# Altium integrated library Capacitor - Aluminium TH.IntLib: 4591 symbols (part 65 of 68)
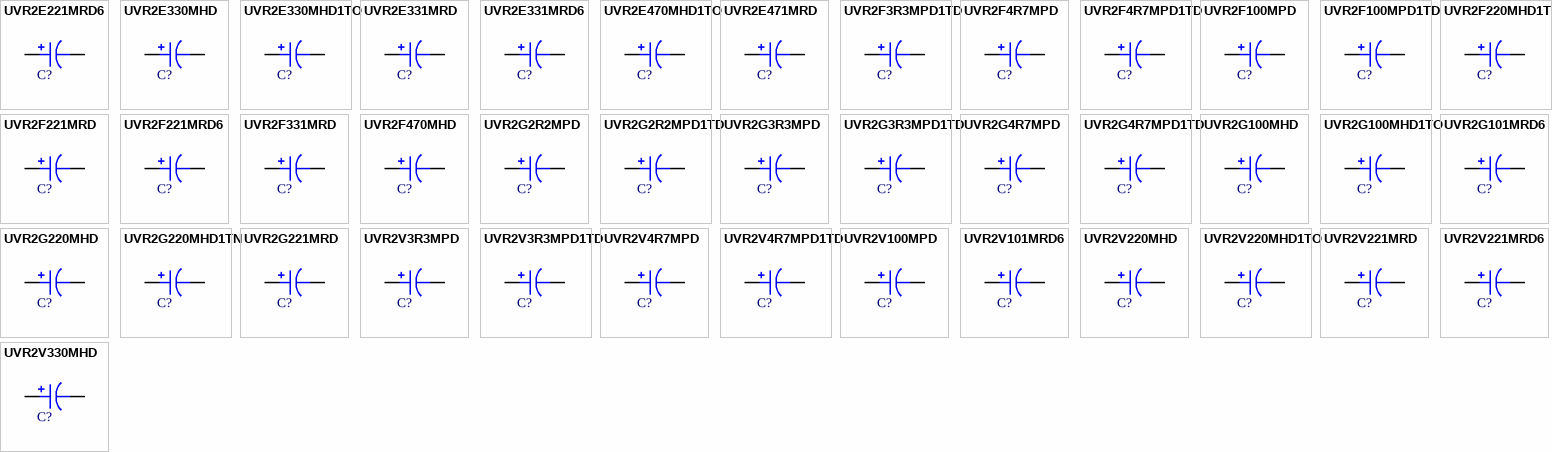
[diagram p178: symbols UVR2E221MRD6 to UVR2V330MHD]

## UVR2G101MRD6
designator C?, comment 100uF  (value not drawn)
CAP ALUM 100UF 20% 400V RADIAL; Part Number: UVR2G101MRD6; Manufacturer: Nichicon; TemperatureRange: -40C ~ 85C; Type: Polar; Ripple Current: 530mA; Value: 100uF; PartId: 27473; Supplier 1: Digi-Key; Supplier Part Number 1: 493-1235-ND; ComponentLink1Description: Datasheet; ComponentLink1URL: http://nichicon-us.com/english/products/pdfs/e-uvr.pdf; ComponentLink2Description: Digi-Key Listing; ComponentLink2URL: https://www.digikey.com/product-detail/en/nichicon/UVR2G101MRD6/493-1235-ND/588976; Tolerance: 20%; Voltage: 400V; Price: 3.13; Device Package: Radial, Can, 25mm
footprint CAP AL TH D25 L12.5 H32
pins: 1, 2

## UVR2G220MHD
designator C?, comment 22uF  (value not drawn)
CAP ALUM 22UF 20% 400V RADIAL; Part Number: UVR2G220MHD; Manufacturer: Nichicon; TemperatureRange: -40C ~ 85C; Type: Polar; Ripple Current: 240mA; Value: 22uF; PartId: 26847; Supplier 1: Digi-Key; Supplier Part Number 1: 493-1231-ND; ComponentLink1Description: Datasheet; ComponentLink1URL: http://nichicon-us.com/english/products/pdfs/e-uvr.pdf; ComponentLink2Description: Digi-Key Listing; ComponentLink2URL: https://www.digikey.com/product-detail/en/nichicon/UVR2G220MHD/493-1231-ND/588972; Tolerance: 20%; Voltage: 400V; Price: 1.04; Device Package: Radial, Can, 16mm
footprint CAP AL TH D16 L7.5 H27
pins: 1, 2

## UVR2G220MHD1TN
designator C?, comment 22uF  (value not drawn)
CAP ALUM 22UF 20% 400V RADIAL; Part Number: UVR2G220MHD1TN; Manufacturer: Nichicon; TemperatureRange: -40C ~ 85C; Type: Polar; Ripple Current: 240mA; Value: 22uF; PartId: 26747; Supplier 1: Digi-Key; Supplier Part Number 1: 493-12864-3-ND; ComponentLink1Description: Datasheet; ComponentLink1URL: http://nichicon-us.com/english/products/pdfs/e-uvr.pdf; ComponentLink2Description: Digi-Key Listing; ComponentLink2URL: https://www.digikey.com/product-detail/en/nichicon/UVR2G220MHD1TN/493-12864-3-ND/4329063; Tolerance: 20%; Voltage: 400V; Price: 0.5113; Device Package: Radial, Can, 16mm
footprint CAP AL TH D16 L7.5 H27
pins: 1, 2

## UVR2G221MRD
designator C?, comment 220uF  (value not drawn)
CAP ALUM 220UF 20% 400V RADIAL; Part Number: UVR2G221MRD; Manufacturer: Nichicon; TemperatureRange: -40C ~ 85C; Type: Polar; Ripple Current: 750mA; Value: 220uF; PartId: 27518; Supplier 1: Digi-Key; Supplier Part Number 1: 493-1236-ND; ComponentLink1Description: Datasheet; ComponentLink1URL: http://nichicon-us.com/english/products/pdfs/e-uvr.pdf; ComponentLink2Description: Digi-Key Listing; ComponentLink2URL: https://www.digikey.com/product-detail/en/nichicon/UVR2G221MRD/493-1236-ND/588977; Tolerance: 20%; Voltage: 400V; Price: 4.62; Device Package: Radial, Can, 25mm
footprint CAP AL TH D25 L12.5 H52
pins: 1, 2

## UVR2V3R3MPD
designator C?, comment 3.3uF  (value not drawn)
CAP ALUM 3.3UF 20% 350V RADIAL; Part Number: UVR2V3R3MPD; Manufacturer: Nichicon; TemperatureRange: -40C ~ 85C; Type: Polar; Ripple Current: 55mA; Value: 3.3uF; PartId: 24815; Supplier 1: Digi-Key; Supplier Part Number 1: 493-1216-ND; ComponentLink1Description: Datasheet; ComponentLink1URL: http://nichicon-us.com/english/products/pdfs/e-uvr.pdf; ComponentLink2Description: Digi-Key Listing; ComponentLink2URL: https://www.digikey.com/product-detail/en/nichicon/UVR2V3R3MPD/493-1216-ND/588957; Tolerance: 20%; Voltage: 350V; Price: 0.45; Device Package: Radial, Can, 10mm
footprint CAP AL TH D10 L5 H14.5
pins: 1, 2

## UVR2V3R3MPD1TD
designator C?, comment 3.3uF  (value not drawn)
CAP ALUM 3.3UF 20% 350V RADIAL; Part Number: UVR2V3R3MPD1TD; Manufacturer: Nichicon; TemperatureRange: -40C ~ 85C; Type: Polar; Ripple Current: 55mA; Value: 3.3uF; PartId: 24736; Supplier 1: Digi-Key; Supplier Part Number 1: 493-12873-1-ND; ComponentLink1Description: Datasheet; ComponentLink1URL: http://nichicon-us.com/english/products/pdfs/e-uvr.pdf; ComponentLink2Description: Digi-Key Listing; ComponentLink2URL: https://www.digikey.com/product-detail/en/nichicon/UVR2V3R3MPD1TD/493-12873-1-ND/4328433; Tolerance: 20%; Voltage: 350V; Price: 0.41; Device Package: Radial, Can, 10mm
footprint CAP AL TH D10 L5 H14.5
pins: 1, 2

## UVR2V4R7MPD
designator C?, comment 4.7uF  (value not drawn)
CAP ALUM 4.7UF 20% 350V RADIAL; Part Number: UVR2V4R7MPD; Manufacturer: Nichicon; TemperatureRange: -40C ~ 85C; Type: Polar; Ripple Current: 65mA; Value: 4.7uF; PartId: 24912; Supplier 1: Digi-Key; Supplier Part Number 1: 493-1217-ND; ComponentLink1Description: Datasheet; ComponentLink1URL: http://nichicon-us.com/english/products/pdfs/e-uvr.pdf; ComponentLink2Description: Digi-Key Listing; ComponentLink2URL: https://www.digikey.com/product-detail/en/nichicon/UVR2V4R7MPD/493-1217-ND/588958; Tolerance: 20%; Voltage: 350V; Price: 0.49; Device Package: Radial, Can, 10mm
footprint CAP AL TH D10 L5 H14.5
pins: 1, 2

## UVR2V4R7MPD1TD
designator C?, comment 4.7uF  (value not drawn)
CAP ALUM 4.7UF 20% 350V RADIAL; Part Number: UVR2V4R7MPD1TD; Manufacturer: Nichicon; TemperatureRange: -40C ~ 85C; Type: Polar; Ripple Current: 65mA; Value: 4.7uF; PartId: 24561; Supplier 1: Digi-Key; Supplier Part Number 1: 493-12874-3-ND; ComponentLink1Description: Datasheet; ComponentLink1URL: http://nichicon-us.com/english/products/pdfs/e-uvr.pdf; ComponentLink2Description: Digi-Key Listing; ComponentLink2URL: https://www.digikey.com/product-detail/en/nichicon/UVR2V4R7MPD1TD/493-12874-3-ND/4329073; Tolerance: 20%; Voltage: 350V; Price: 0.1534; Device Package: Radial, Can, 10mm
footprint CAP AL TH D10 L5 H14.5
pins: 1, 2

## UVR2V100MPD
designator C?, comment 10uF  (value not drawn)
CAP ALUM 10UF 20% 350V RADIAL; Part Number: UVR2V100MPD; Manufacturer: Nichicon; TemperatureRange: -40C ~ 85C; Type: Polar; Ripple Current: 115mA; Value: 10uF; PartId: 25855; Supplier 1: Digi-Key; Supplier Part Number 1: 493-1218-ND; ComponentLink1Description: Datasheet; ComponentLink1URL: http://nichicon-us.com/english/products/pdfs/e-uvr.pdf; ComponentLink2Description: Digi-Key Listing; ComponentLink2URL: https://www.digikey.com/product-detail/en/nichicon/UVR2V100MPD/493-1218-ND/588959; Tolerance: 20%; Voltage: 350V; Price: 0.57; Device Package: Radial, Can, 10mm
footprint CAP AL TH D10 L5 H22
pins: 1, 2

## UVR2V101MRD6
designator C?, comment 100uF  (value not drawn)
CAP ALUM 100UF 20% 350V RADIAL; Part Number: UVR2V101MRD6; Manufacturer: Nichicon; TemperatureRange: -40C ~ 85C; Type: Polar; Ripple Current: 570mA; Value: 100uF; PartId: 27570; Supplier 1: Digi-Key; Supplier Part Number 1: 493-1223-ND; ComponentLink1Description: Datasheet; ComponentLink1URL: http://nichicon-us.com/english/products/pdfs/e-uvr.pdf; ComponentLink2Description: Digi-Key Listing; ComponentLink2URL: https://www.digikey.com/product-detail/en/nichicon/UVR2V101MRD6/493-1223-ND/588964; Tolerance: 20%; Voltage: 350V; Price: 2.77; Device Package: Radial, Can, 22mm
footprint CAP AL TH D22 L10 H33
pins: 1, 2

## UVR2V220MHD
designator C?, comment 22uF  (value not drawn)
CAP ALUM 22UF 20% 350V RADIAL; Part Number: UVR2V220MHD; Manufacturer: Nichicon; TemperatureRange: -40C ~ 85C; Type: Polar; Ripple Current: 200mA; Value: 22uF; PartId: 23895; Supplier 1: Digi-Key; Supplier Part Number 1: 493-1219-ND; ComponentLink1Description: Datasheet; ComponentLink1URL: http://nichicon-us.com/english/products/pdfs/e-uvr.pdf; ComponentLink2Description: Digi-Key Listing; ComponentLink2URL: https://www.digikey.com/product-detail/en/nichicon/UVR2V220MHD/493-1219-ND/588960; Tolerance: 20%; Voltage: 350V; Price: 0.87; Device Package: Radial, Can, 12.5mm
footprint CAP AL TH D12.5 L5 H27
pins: 1, 2

## UVR2V220MHD1TO
designator C?, comment 22uF  (value not drawn)
CAP ALUM 22UF 20% 350V RADIAL; Part Number: UVR2V220MHD1TO; Manufacturer: Nichicon; TemperatureRange: -40C ~ 85C; Type: Polar; Ripple Current: 200mA; Value: 22uF; PartId: 23950; Supplier 1: Digi-Key; Supplier Part Number 1: 493-12870-1-ND; ComponentLink1Description: Datasheet; ComponentLink1URL: http://nichicon-us.com/english/products/pdfs/e-uvr.pdf; ComponentLink2Description: Digi-Key Listing; ComponentLink2URL: https://www.digikey.com/product-detail/en/nichicon/UVR2V220MHD1TO/493-12870-1-ND/4328399; Tolerance: 20%; Voltage: 350V; Price: 0.97; Device Package: Radial, Can, 12.5mm
footprint CAP AL TH D12.5 L5 H27
pins: 1, 2

## UVR2V221MRD
designator C?, comment 220uF  (value not drawn)
CAP ALUM 220UF 20% 350V RADIAL; Part Number: UVR2V221MRD; Manufacturer: Nichicon; TemperatureRange: -40C ~ 85C; Type: Polar; Ripple Current: 850mA; Value: 220uF; PartId: 27655; Supplier 1: Digi-Key; Supplier Part Number 1: 493-1224-ND; ComponentLink1Description: Datasheet; ComponentLink1URL: http://nichicon-us.com/english/products/pdfs/e-uvr.pdf; ComponentLink2Description: Digi-Key Listing; ComponentLink2URL: https://www.digikey.com/product-detail/en/nichicon/UVR2V221MRD/493-1224-ND/588965; Tolerance: 20%; Voltage: 350V; Price: 4.42; Device Package: Radial, Can, 22mm
footprint CAP AL TH D22 L10 H53
pins: 1, 2

## UVR2V221MRD6
designator C?, comment 220uF  (value not drawn)
CAP ALUM 220UF 20% 350V RADIAL; Part Number: UVR2V221MRD6; Manufacturer: Nichicon; TemperatureRange: -40C ~ 85C; Type: Polar; Ripple Current: 890mA; Value: 220uF; PartId: 27492; Supplier 1: Digi-Key; Supplier Part Number 1: 493-1225-ND; ComponentLink1Description: Datasheet; ComponentLink1URL: http://nichicon-us.com/english/products/pdfs/e-uvr.pdf; ComponentLink2Description: Digi-Key Listing; ComponentLink2URL: https://www.digikey.com/product-detail/en/nichicon/UVR2V221MRD6/493-1225-ND/588966; Tolerance: 20%; Voltage: 350V; Price: 4.42; Device Package: Radial, Can, 25mm
footprint CAP AL TH D25 L12.5 H42
pins: 1, 2

## UVR2V330MHD
designator C?, comment 33uF  (value not drawn)
CAP ALUM 33UF 20% 350V RADIAL; Part Number: UVR2V330MHD; Manufacturer: Nichicon; TemperatureRange: -40C ~ 85C; Type: Polar; Ripple Current: 275mA; Value: 33uF; PartId: 26864; Supplier 1: Digi-Key; Supplier Part Number 1: 493-1220-ND; ComponentLink1Description: Datasheet; ComponentLink1URL: http://nichicon-us.com/english/products/pdfs/e-uvr.pdf; ComponentLink2Description: Digi-Key Listing; ComponentLink2URL: https://www.digikey.com/product-detail/en/nichicon/UVR2V330MHD/493-1220-ND/588961; Tolerance: 20%; Voltage: 350V; Price: 1.26; Device Package: Radial, Can, 16mm
footprint CAP AL TH D16 L7.5 H27
pins: 1, 2

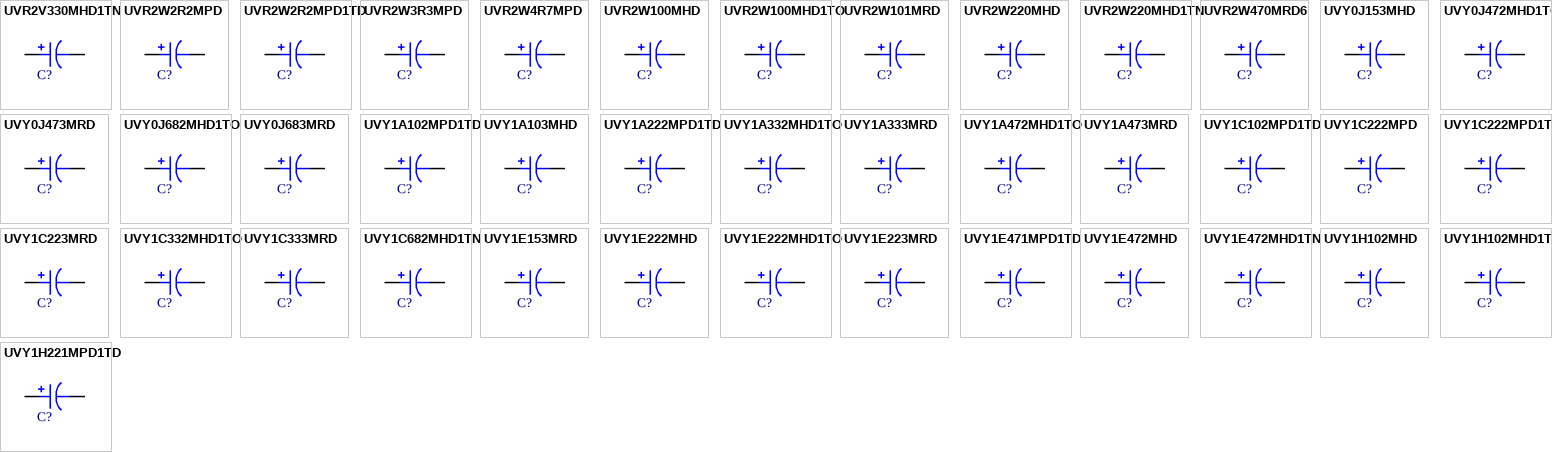
[diagram p109: symbols UVR2V330MHD1TN to UVY1H221MPD1TD]

## UVR2V330MHD1TN
designator C?, comment 33uF  (value not drawn)
CAP ALUM 33UF 20% 350V RADIAL; Part Number: UVR2V330MHD1TN; Manufacturer: Nichicon; TemperatureRange: -40C ~ 85C; Type: Polar; Ripple Current: 275mA; Value: 33uF; PartId: 26784; Supplier 1: Digi-Key; Supplier Part Number 1: 493-12872-3-ND; ComponentLink1Description: Datasheet; ComponentLink1URL: http://nichicon-us.com/english/products/pdfs/e-uvr.pdf; ComponentLink2Description: Digi-Key Listing; ComponentLink2URL: https://www.digikey.com/product-detail/en/nichicon/UVR2V330MHD1TN/493-12872-3-ND/4329071; Tolerance: 20%; Voltage: 350V; Price: 0.661; Device Package: Radial, Can, 16mm
footprint CAP AL TH D16 L7.5 H27
pins: 1, 2

## UVR2W2R2MPD
designator C?, comment 2.2uF  (value not drawn)
CAP ALUM 2.2UF 20% 450V RADIAL; Part Number: UVR2W2R2MPD; Manufacturer: Nichicon; TemperatureRange: -25C ~ 85C; Type: Polar; Ripple Current: 35mA; Value: 2.2uF; PartId: 24748; Supplier 1: Digi-Key; Supplier Part Number 1: 493-1238-ND; ComponentLink1Description: Datasheet; ComponentLink1URL: http://nichicon-us.com/english/products/pdfs/e-uvr.pdf; ComponentLink2Description: Digi-Key Listing; ComponentLink2URL: https://www.digikey.com/product-detail/en/nichicon/UVR2W2R2MPD/493-1238-ND/588979; Tolerance: 20%; Voltage: 450V; Price: 0.42; Device Package: Radial, Can, 10mm
footprint CAP AL TH D10 L5 H14.5
pins: 1, 2

## UVR2W2R2MPD1TD
designator C?, comment 2.2uF  (value not drawn)
CAP ALUM 2.2UF 20% 450V RADIAL; Part Number: UVR2W2R2MPD1TD; Manufacturer: Nichicon; TemperatureRange: -25C ~ 85C; Type: Polar; Ripple Current: 35mA; Value: 2.2uF; PartId: 24865; Supplier 1: Digi-Key; Supplier Part Number 1: 493-12878-1-ND; ComponentLink1Description: Datasheet; ComponentLink1URL: http://nichicon-us.com/english/products/pdfs/e-uvr.pdf; ComponentLink2Description: Digi-Key Listing; ComponentLink2URL: https://www.digikey.com/product-detail/en/nichicon/UVR2W2R2MPD1TD/493-12878-1-ND/4328436; Tolerance: 20%; Voltage: 450V; Price: 0.47; Device Package: Radial, Can, 10mm
footprint CAP AL TH D10 L5 H14.5
pins: 1, 2

## UVR2W3R3MPD
designator C?, comment 3.3uF  (value not drawn)
CAP ALUM 3.3UF 20% 450V RADIAL; Part Number: UVR2W3R3MPD; Manufacturer: Nichicon; TemperatureRange: -25C ~ 85C; Type: Polar; Ripple Current: 45mA; Value: 3.3uF; PartId: 25174; Supplier 1: Digi-Key; Supplier Part Number 1: 493-1239-ND; ComponentLink1Description: Datasheet; ComponentLink1URL: http://nichicon-us.com/english/products/pdfs/e-uvr.pdf; ComponentLink2Description: Digi-Key Listing; ComponentLink2URL: https://www.digikey.com/product-detail/en/nichicon/UVR2W3R3MPD/493-1239-ND/588980; Tolerance: 20%; Voltage: 450V; Price: 0.45; Device Package: Radial, Can, 10mm
footprint CAP AL TH D10 L5 H17.5
pins: 1, 2

## UVR2W4R7MPD
designator C?, comment 4.7uF  (value not drawn)
CAP ALUM 4.7UF 20% 450V RADIAL; Part Number: UVR2W4R7MPD; Manufacturer: Nichicon; TemperatureRange: -25C ~ 85C; Type: Polar; Ripple Current: 55mA; Value: 4.7uF; PartId: 25850; Supplier 1: Digi-Key; Supplier Part Number 1: 493-1240-ND; ComponentLink1Description: Datasheet; ComponentLink1URL: http://nichicon-us.com/english/products/pdfs/e-uvr.pdf; ComponentLink2Description: Digi-Key Listing; ComponentLink2URL: https://www.digikey.com/product-detail/en/nichicon/UVR2W4R7MPD/493-1240-ND/588981; Tolerance: 20%; Voltage: 450V; Price: 0.55; Device Package: Radial, Can, 10mm
footprint CAP AL TH D10 L5 H22
pins: 1, 2

## UVR2W100MHD
designator C?, comment 10uF  (value not drawn)
CAP ALUM 10UF 20% 450V RADIAL; Part Number: UVR2W100MHD; Manufacturer: Nichicon; TemperatureRange: -25C ~ 85C; Type: Polar; Ripple Current: 90mA; Value: 10uF; PartId: 23241; Supplier 1: Digi-Key; Supplier Part Number 1: 493-1241-ND; ComponentLink1Description: Datasheet; ComponentLink1URL: http://nichicon-us.com/english/products/pdfs/e-uvr.pdf; ComponentLink2Description: Digi-Key Listing; ComponentLink2URL: https://www.digikey.com/product-detail/en/nichicon/UVR2W100MHD/493-1241-ND/588982; Tolerance: 20%; Voltage: 450V; Price: 0.69; Device Package: Radial, Can, 12.5mm
footprint CAP AL TH D12.5 L5 H22
pins: 1, 2

## UVR2W100MHD1TO
designator C?, comment 10uF  (value not drawn)
CAP ALUM 10UF 20% 450V RADIAL; Part Number: UVR2W100MHD1TO; Manufacturer: Nichicon; TemperatureRange: -25C ~ 85C; Type: Polar; Ripple Current: 90mA; Value: 10uF; PartId: 23215; Supplier 1: Digi-Key; Supplier Part Number 1: 493-12876-1-ND; ComponentLink1Description: Datasheet; ComponentLink1URL: http://nichicon-us.com/english/products/pdfs/e-uvr.pdf; ComponentLink2Description: Digi-Key Listing; ComponentLink2URL: https://www.digikey.com/product-detail/en/nichicon/UVR2W100MHD1TO/493-12876-1-ND/4328412; Tolerance: 20%; Voltage: 450V; Price: 0.63; Device Package: Radial, Can, 12.5mm
footprint CAP AL TH D12.5 L5 H22
pins: 1, 2

## UVR2W101MRD
designator C?, comment 100uF  (value not drawn)
CAP ALUM 100UF 20% 450V RADIAL; Part Number: UVR2W101MRD; Manufacturer: Nichicon; TemperatureRange: -25C ~ 85C; Type: Polar; Ripple Current: 350mA; Value: 100uF; PartId: 27574; Supplier 1: Digi-Key; Supplier Part Number 1: 493-1246-ND; ComponentLink1Description: Datasheet; ComponentLink1URL: http://nichicon-us.com/english/products/pdfs/e-uvr.pdf; ComponentLink2Description: Digi-Key Listing; ComponentLink2URL: https://www.digikey.com/product-detail/en/nichicon/UVR2W101MRD/493-1246-ND/588987; Tolerance: 20%; Voltage: 450V; Price: 3.48; Device Package: Radial, Can, 22mm
footprint CAP AL TH D22 L10 H43
pins: 1, 2

## UVR2W220MHD
designator C?, comment 22uF  (value not drawn)
CAP ALUM 22UF 20% 450V RADIAL; Part Number: UVR2W220MHD; Manufacturer: Nichicon; TemperatureRange: -25C ~ 85C; Type: Polar; Ripple Current: 165mA; Value: 22uF; PartId: 26844; Supplier 1: Digi-Key; Supplier Part Number 1: 493-1242-ND; ComponentLink1Description: Datasheet; ComponentLink1URL: http://nichicon-us.com/english/products/pdfs/e-uvr.pdf; ComponentLink2Description: Digi-Key Listing; ComponentLink2URL: https://www.digikey.com/product-detail/en/nichicon/UVR2W220MHD/493-1242-ND/588983; Tolerance: 20%; Voltage: 450V; Price: 1.03; Device Package: Radial, Can, 16mm
footprint CAP AL TH D16 L7.5 H27
pins: 1, 2

## UVR2W220MHD1TN
designator C?, comment 22uF  (value not drawn)
CAP ALUM 22UF 20% 450V RADIAL; Part Number: UVR2W220MHD1TN; Manufacturer: Nichicon; TemperatureRange: -25C ~ 85C; Type: Polar; Ripple Current: 165mA; Value: 22uF; PartId: 26740; Supplier 1: Digi-Key; Supplier Part Number 1: 493-12877-3-ND; ComponentLink1Description: Datasheet; ComponentLink1URL: http://nichicon-us.com/english/products/pdfs/e-uvr.pdf; ComponentLink2Description: Digi-Key Listing; ComponentLink2URL: https://www.digikey.com/product-detail/en/nichicon/UVR2W220MHD1TN/493-12877-3-ND/4329076; Tolerance: 20%; Voltage: 450V; Price: 0.5044; Device Package: Radial, Can, 16mm
footprint CAP AL TH D16 L7.5 H27
pins: 1, 2

## UVR2W470MRD6
designator C?, comment 47uF  (value not drawn)
CAP ALUM 47UF 20% 450V RADIAL; Part Number: UVR2W470MRD6; Manufacturer: Nichicon; TemperatureRange: -25C ~ 85C; Type: Polar; Ripple Current: 290mA; Value: 47uF; PartId: 27571; Supplier 1: Digi-Key; Supplier Part Number 1: 493-1245-ND; ComponentLink1Description: Datasheet; ComponentLink1URL: http://nichicon-us.com/english/products/pdfs/e-uvr.pdf; ComponentLink2Description: Digi-Key Listing; ComponentLink2URL: https://www.digikey.com/product-detail/en/nichicon/UVR2W470MRD6/493-1245-ND/588986; Tolerance: 20%; Voltage: 450V; Price: 2.94; Device Package: Radial, Can, 22mm
footprint CAP AL TH D22 L10 H33
pins: 1, 2

## UVY0J153MHD
designator C?, comment 15000uF  (value not drawn)
CAP ALUM 15000UF 20% 6.3V RADIAL; Part Number: UVY0J153MHD; Manufacturer: Nichicon; TemperatureRange: -55C ~ 105C; Type: Polar; Ripple Current: 1.82A; Value: 15000uF; PartId: 27096; Supplier 1: Digi-Key; Supplier Part Number 1: 493-12453-ND; ComponentLink1Description: Datasheet; ComponentLink1URL: http://nichicon-us.com/english/products/pdfs/e-uvy.pdf; ComponentLink2Description: Digi-Key Listing; ComponentLink2URL: https://www.digikey.com/product-detail/en/nichicon/UVY0J153MHD/493-12453-ND/2539615; Tolerance: 20%; Voltage: 6.3V; Price: 1.72; Device Package: Radial, Can, 16mm
footprint CAP AL TH D16 L7.5 H33.5
pins: 1, 2

## UVY0J472MHD1TO
designator C?, comment 4700uF  (value not drawn)
CAP ALUM 4700UF 20% 6.3V RADIAL; Part Number: UVY0J472MHD1TO; Manufacturer: Nichicon; TemperatureRange: -55C ~ 105C; Type: Polar; Ripple Current: 1.09A; Value: 4700uF; PartId: 23336; Supplier 1: Digi-Key; Supplier Part Number 1: 493-12885-1-ND; ComponentLink1Description: Datasheet; ComponentLink1URL: http://nichicon-us.com/english/products/pdfs/e-uvy.pdf; ComponentLink2Description: Digi-Key Listing; ComponentLink2URL: https://www.digikey.com/product-detail/en/nichicon/UVY0J472MHD1TO/493-12885-1-ND/4328502; Tolerance: 20%; Voltage: 6.3V; Price: 0.83; Device Package: Radial, Can, 12.5mm
footprint CAP AL TH D12.5 L5 H22
pins: 1, 2

## UVY0J473MRD
designator C?, comment 47000uF  (value not drawn)
CAP ALUM 47000UF 20% 6.3V RADIAL; Part Number: UVY0J473MRD; Manufacturer: Nichicon; TemperatureRange: -55C ~ 105C; Type: Polar; Ripple Current: 2.78A; Value: 47000uF; PartId: 27626; Supplier 1: Digi-Key; Supplier Part Number 1: 493-12456-ND; ComponentLink1Description: Datasheet; ComponentLink1URL: http://nichicon-us.com/english/products/pdfs/e-uvy.pdf; ComponentLink2Description: Digi-Key Listing; ComponentLink2URL: https://www.digikey.com/product-detail/en/nichicon/UVY0J473MRD/493-12456-ND/2539621; Tolerance: 20%; Voltage: 6.3V; Price: 4.24; Device Package: Radial, Can, 22mm
footprint CAP AL TH D22 L10 H53
pins: 1, 2

## UVY0J682MHD1TO
designator C?, comment 6800uF  (value not drawn)
CAP ALUM 6800UF 20% 6.3V RADIAL; Part Number: UVY0J682MHD1TO; Manufacturer: Nichicon; TemperatureRange: -55C ~ 105C; Type: Polar; Ripple Current: 1.35A; Value: 6800uF; PartId: 24088; Supplier 1: Digi-Key; Supplier Part Number 1: 493-12886-1-ND; ComponentLink1Description: Datasheet; ComponentLink1URL: http://nichicon-us.com/english/products/pdfs/e-uvy.pdf; ComponentLink2Description: Digi-Key Listing; ComponentLink2URL: https://www.digikey.com/product-detail/en/nichicon/UVY0J682MHD1TO/493-12886-1-ND/4328503; Tolerance: 20%; Voltage: 6.3V; Price: 1.25; Device Package: Radial, Can, 12.5mm
footprint CAP AL TH D12.5 L5 H27
pins: 1, 2

## UVY0J683MRD
designator C?, comment 68000uF  (value not drawn)
CAP ALUM 68000UF 20% 6.3V RADIAL; Part Number: UVY0J683MRD; Manufacturer: Nichicon; TemperatureRange: -55C ~ 105C; Type: Polar; Ripple Current: 3.07A; Value: 68000uF; PartId: 27535; Supplier 1: Digi-Key; Supplier Part Number 1: 493-12457-ND; ComponentLink1Description: Datasheet; ComponentLink1URL: http://nichicon-us.com/english/products/pdfs/e-uvy.pdf; ComponentLink2Description: Digi-Key Listing; ComponentLink2URL: https://www.digikey.com/product-detail/en/nichicon/UVY0J683MRD/493-12457-ND/2539623; Tolerance: 20%; Voltage: 6.3V; Price: 4.92; Device Package: Radial, Can, 25mm
footprint CAP AL TH D25 L12.5 H52
pins: 1, 2

## UVY1A102MPD1TD
designator C?, comment 1000uF  (value not drawn)
CAP ALUM 1000UF 20% 10V RADIAL; Part Number: UVY1A102MPD1TD; Manufacturer: Nichicon; TemperatureRange: -55C ~ 105C; Type: Polar; Ripple Current: 460mA; Value: 1000uF; PartId: 24843; Supplier 1: Digi-Key; Supplier Part Number 1: 493-12887-1-ND; ComponentLink1Description: Datasheet; ComponentLink1URL: http://nichicon-us.com/english/products/pdfs/e-uvy.pdf; ComponentLink2Description: Digi-Key Listing; ComponentLink2URL: https://www.digikey.com/product-detail/en/nichicon/UVY1A102MPD1TD/493-12887-1-ND/4328504; Tolerance: 20%; Voltage: 10V; Price: 0.46; Device Package: Radial, Can, 10mm
footprint CAP AL TH D10 L5 H14.5
pins: 1, 2

## UVY1A103MHD
designator C?, comment 10000uF  (value not drawn)
CAP ALUM 10000UF 20% 10V RADIAL; Part Number: UVY1A103MHD; Manufacturer: Nichicon; TemperatureRange: -55C ~ 105C; Type: Polar; Ripple Current: 1.82A; Value: 10000uF; PartId: 27095; Supplier 1: Digi-Key; Supplier Part Number 1: 493-12458-ND; ComponentLink1Description: Datasheet; ComponentLink1URL: http://nichicon-us.com/english/products/pdfs/e-uvy.pdf; ComponentLink2Description: Digi-Key Listing; ComponentLink2URL: https://www.digikey.com/product-detail/en/nichicon/UVY1A103MHD/493-12458-ND/2539625; Tolerance: 20%; Voltage: 10V; Price: 1.72; Device Package: Radial, Can, 16mm
footprint CAP AL TH D16 L7.5 H33.5
pins: 1, 2

## UVY1A222MPD1TD
designator C?, comment 2200uF  (value not drawn)
CAP ALUM 2200UF 20% 10V RADIAL; Part Number: UVY1A222MPD1TD; Manufacturer: Nichicon; TemperatureRange: -55C ~ 105C; Type: Polar; Ripple Current: 705mA; Value: 2200uF; PartId: 25053; Supplier 1: Digi-Key; Supplier Part Number 1: 493-12889-3-ND; ComponentLink1Description: Datasheet; ComponentLink1URL: http://nichicon-us.com/english/products/pdfs/e-uvy.pdf; ComponentLink2Description: Digi-Key Listing; ComponentLink2URL: https://www.digikey.com/product-detail/en/nichicon/UVY1A222MPD1TD/493-12889-3-ND/4329088; Tolerance: 20%; Voltage: 10V; Price: 0.2136; Device Package: Radial, Can, 10mm
footprint CAP AL TH D10 L5 H17.5
pins: 1, 2

## UVY1A332MHD1TO
designator C?, comment 3300uF  (value not drawn)
CAP ALUM 3300UF 20% 10V RADIAL; Part Number: UVY1A332MHD1TO; Manufacturer: Nichicon; TemperatureRange: -55C ~ 105C; Type: Polar; Ripple Current: 1A; Value: 3300uF; PartId: 23155; Supplier 1: Digi-Key; Supplier Part Number 1: 493-12891-3-ND; ComponentLink1Description: Datasheet; ComponentLink1URL: http://nichicon-us.com/english/products/pdfs/e-uvy.pdf; ComponentLink2Description: Digi-Key Listing; ComponentLink2URL: https://www.digikey.com/product-detail/en/nichicon/UVY1A332MHD1TO/493-12891-3-ND/4329090; Tolerance: 20%; Voltage: 10V; Price: 0.3097; Device Package: Radial, Can, 12.5mm
footprint CAP AL TH D12.5 L5 H22
pins: 1, 2

## UVY1A333MRD
designator C?, comment 33000uF  (value not drawn)
CAP ALUM 33000UF 20% 10V RADIAL; Part Number: UVY1A333MRD; Manufacturer: Nichicon; TemperatureRange: -55C ~ 105C; Type: Polar; Ripple Current: 3.21A; Value: 33000uF; PartId: 27636; Supplier 1: Digi-Key; Supplier Part Number 1: 493-12461-ND; ComponentLink1Description: Datasheet; ComponentLink1URL: http://nichicon-us.com/english/products/pdfs/e-uvy.pdf; ComponentLink2Description: Digi-Key Listing; ComponentLink2URL: https://www.digikey.com/product-detail/en/nichicon/UVY1A333MRD/493-12461-ND/2539632; Tolerance: 20%; Voltage: 10V; Price: 3.8; Device Package: Radial, Can, 22mm
footprint CAP AL TH D22 L10 H53
pins: 1, 2

## UVY1A472MHD1TO
designator C?, comment 4700uF  (value not drawn)
CAP ALUM 4700UF 20% 10V RADIAL; Part Number: UVY1A472MHD1TO; Manufacturer: Nichicon; TemperatureRange: -55C ~ 105C; Type: Polar; Ripple Current: 1.26A; Value: 4700uF; PartId: 24047; Supplier 1: Digi-Key; Supplier Part Number 1: 493-12893-1-ND; ComponentLink1Description: Datasheet; ComponentLink1URL: http://nichicon-us.com/english/products/pdfs/e-uvy.pdf; ComponentLink2Description: Digi-Key Listing; ComponentLink2URL: https://www.digikey.com/product-detail/en/nichicon/UVY1A472MHD1TO/493-12893-1-ND/4328510; Tolerance: 20%; Voltage: 10V; Price: 1.14; Device Package: Radial, Can, 12.5mm
footprint CAP AL TH D12.5 L5 H27
pins: 1, 2

## UVY1A473MRD
designator C?, comment 47000uF  (value not drawn)
CAP ALUM 47000UF 20% 10V RADIAL; Part Number: UVY1A473MRD; Manufacturer: Nichicon; TemperatureRange: -55C ~ 105C; Type: Polar; Ripple Current: 3.57A; Value: 47000uF; PartId: 27516; Supplier 1: Digi-Key; Supplier Part Number 1: 493-12462-ND; ComponentLink1Description: Datasheet; ComponentLink1URL: http://nichicon-us.com/english/products/pdfs/e-uvy.pdf; ComponentLink2Description: Digi-Key Listing; ComponentLink2URL: https://www.digikey.com/product-detail/en/nichicon/UVY1A473MRD/493-12462-ND/2539634; Tolerance: 20%; Voltage: 10V; Price: 4.43; Device Package: Radial, Can, 25mm
footprint CAP AL TH D25 L12.5 H52
pins: 1, 2

## UVY1C102MPD1TD
designator C?, comment 1000uF  (value not drawn)
CAP ALUM 1000UF 20% 16V RADIAL; Part Number: UVY1C102MPD1TD; Manufacturer: Nichicon; TemperatureRange: -55C ~ 105C; Type: Polar; Ripple Current: 500mA; Value: 1000uF; PartId: 24553; Supplier 1: Digi-Key; Supplier Part Number 1: 493-14736-3-ND; ComponentLink1Description: Datasheet; ComponentLink1URL: http://nichicon-us.com/english/products/pdfs/e-uvy.pdf; ComponentLink2Description: Digi-Key Listing; ComponentLink2URL: https://www.digikey.com/product-detail/en/nichicon/UVY1C102MPD1TD/493-14736-3-ND/3725962; Tolerance: 20%; Voltage: 16V; Price: 0.1506; Device Package: Radial, Can, 10mm
footprint CAP AL TH D10 L5 H14.5
pins: 1, 2

## UVY1C222MPD
designator C?, comment 2200uF  (value not drawn)
CAP ALUM 2200UF 20% 16V RADIAL; Part Number: UVY1C222MPD; Manufacturer: Nichicon; TemperatureRange: -55C ~ 105C; Type: Polar; Ripple Current: 710mA; Value: 2200uF; PartId: 25627; Supplier 1: Digi-Key; Supplier Part Number 1: 493-13409-ND; ComponentLink1Description: Datasheet; ComponentLink1URL: http://nichicon-us.com/english/products/pdfs/e-uvy.pdf; ComponentLink2Description: Digi-Key Listing; ComponentLink2URL: https://www.digikey.com/product-detail/en/nichicon/UVY1C222MPD/493-13409-ND/2404092; Tolerance: 20%; Voltage: 16V; Price: 0.72; Device Package: Radial, Can, 10mm
footprint CAP AL TH D10 L5 H22
pins: 1, 2

## UVY1C222MPD1TD
designator C?, comment 2200uF  (value not drawn)
CAP ALUM 2200UF 20% 16V RADIAL; Part Number: UVY1C222MPD1TD; Manufacturer: Nichicon; TemperatureRange: -55C ~ 105C; Type: Polar; Ripple Current: 710mA; Value: 2200uF; PartId: 25801; Supplier 1: Digi-Key; Supplier Part Number 1: 493-12896-3-ND; ComponentLink1Description: Datasheet; ComponentLink1URL: http://nichicon-us.com/english/products/pdfs/e-uvy.pdf; ComponentLink2Description: Digi-Key Listing; ComponentLink2URL: https://www.digikey.com/product-detail/en/nichicon/UVY1C222MPD1TD/493-12896-3-ND/4329095; Tolerance: 20%; Voltage: 16V; Price: 0.2865; Device Package: Radial, Can, 10mm
footprint CAP AL TH D10 L5 H22
pins: 1, 2

## UVY1C223MRD
designator C?, comment 22000uF  (value not drawn)
CAP ALUM 22000UF 20% 16V RADIAL; Part Number: UVY1C223MRD; Manufacturer: Nichicon; TemperatureRange: -55C ~ 105C; Type: Polar; Ripple Current: 2.71A; Value: 22000uF; PartId: 27587; Supplier 1: Digi-Key; Supplier Part Number 1: 493-12465-ND; ComponentLink1Description: Datasheet; ComponentLink1URL: http://nichicon-us.com/english/products/pdfs/e-uvy.pdf; ComponentLink2Description: Digi-Key Listing; ComponentLink2URL: https://www.digikey.com/product-detail/en/nichicon/UVY1C223MRD/493-12465-ND/1881325; Tolerance: 20%; Voltage: 16V; Price: 3.8; Device Package: Radial, Can, 22mm
footprint CAP AL TH D22 L10 H43
pins: 1, 2

## UVY1C332MHD1TO
designator C?, comment 3300uF  (value not drawn)
CAP ALUM 3300UF 20% 16V RADIAL; Part Number: UVY1C332MHD1TO; Manufacturer: Nichicon; TemperatureRange: -55C ~ 105C; Type: Polar; Ripple Current: 1.17A; Value: 3300uF; PartId: 24070; Supplier 1: Digi-Key; Supplier Part Number 1: 493-12898-1-ND; ComponentLink1Description: Datasheet; ComponentLink1URL: http://nichicon-us.com/english/products/pdfs/e-uvy.pdf; ComponentLink2Description: Digi-Key Listing; ComponentLink2URL: https://www.digikey.com/product-detail/en/nichicon/UVY1C332MHD1TO/493-12898-1-ND/4328515; Tolerance: 20%; Voltage: 16V; Price: 1.2; Device Package: Radial, Can, 12.5mm
footprint CAP AL TH D12.5 L5 H27
pins: 1, 2

## UVY1C333MRD
designator C?, comment 33000uF  (value not drawn)
CAP ALUM 33000UF 20% 16V RADIAL; Part Number: UVY1C333MRD; Manufacturer: Nichicon; TemperatureRange: -55C ~ 105C; Type: Polar; Ripple Current: 3.45A; Value: 33000uF; PartId: 27528; Supplier 1: Digi-Key; Supplier Part Number 1: 493-12466-ND; ComponentLink1Description: Datasheet; ComponentLink1URL: http://nichicon-us.com/english/products/pdfs/e-uvy.pdf; ComponentLink2Description: Digi-Key Listing; ComponentLink2URL: https://www.digikey.com/product-detail/en/nichicon/UVY1C333MRD/493-12466-ND/2539642; Tolerance: 20%; Voltage: 16V; Price: 4.25; Device Package: Radial, Can, 25mm
footprint CAP AL TH D25 L12.5 H52
pins: 1, 2

## UVY1C682MHD1TN
designator C?, comment 6800uF  (value not drawn)
CAP ALUM 6800UF 20% 16V RADIAL; Part Number: UVY1C682MHD1TN; Manufacturer: Nichicon; TemperatureRange: -55C ~ 105C; Type: Polar; Ripple Current: 1.6A; Value: 6800uF; PartId: 26790; Supplier 1: Digi-Key; Supplier Part Number 1: 493-12901-3-ND; ComponentLink1Description: Datasheet; ComponentLink1URL: http://nichicon-us.com/english/products/pdfs/e-uvy.pdf; ComponentLink2Description: Digi-Key Listing; ComponentLink2URL: https://www.digikey.com/product-detail/en/nichicon/UVY1C682MHD1TN/493-12901-3-ND/4329100; Tolerance: 20%; Voltage: 16V; Price: 0.6728; Device Package: Radial, Can, 16mm
footprint CAP AL TH D16 L7.5 H27
pins: 1, 2

## UVY1E153MRD
designator C?, comment 15000uF  (value not drawn)
CAP ALUM 15000UF 20% 25V RADIAL; Part Number: UVY1E153MRD; Manufacturer: Nichicon; TemperatureRange: -55C ~ 105C; Type: Polar; Ripple Current: 2.75A; Value: 15000uF; PartId: 27628; Supplier 1: Digi-Key; Supplier Part Number 1: 493-12468-ND; ComponentLink1Description: Datasheet; ComponentLink1URL: http://nichicon-us.com/english/products/pdfs/e-uvy.pdf; ComponentLink2Description: Digi-Key Listing; ComponentLink2URL: https://www.digikey.com/product-detail/en/nichicon/UVY1E153MRD/493-12468-ND/2539647; Tolerance: 20%; Voltage: 25V; Price: 4.28; Device Package: Radial, Can, 22mm
footprint CAP AL TH D22 L10 H53
pins: 1, 2

## UVY1E222MHD
designator C?, comment 2200uF  (value not drawn)
CAP ALUM 2200UF 20% 25V RADIAL; Part Number: UVY1E222MHD; Manufacturer: Nichicon; TemperatureRange: -55C ~ 105C; Type: Polar; Ripple Current: 1.09A; Value: 2200uF; PartId: 23605; Supplier 1: Digi-Key; Supplier Part Number 1: UVY1E222MHD-ND; ComponentLink1Description: Datasheet; ComponentLink1URL: http://nichicon-us.com/english/products/pdfs/e-uvy.pdf; ComponentLink2Description: Digi-Key Listing; ComponentLink2URL: https://www.digikey.com/product-detail/en/nichicon/UVY1E222MHD/UVY1E222MHD-ND/2428010; Tolerance: 20%; Voltage: 25V; Price: 1.05; Device Package: Radial, Can, 12.5mm
footprint CAP AL TH D12.5 L5 H25
pins: 1, 2

## UVY1E222MHD1TO
designator C?, comment 2200uF  (value not drawn)
CAP ALUM 2200UF 20% 25V RADIAL; Part Number: UVY1E222MHD1TO; Manufacturer: Nichicon; TemperatureRange: -55C ~ 105C; Type: Polar; Ripple Current: 1.09A; Value: 2200uF; PartId: 23458; Supplier 1: Digi-Key; Supplier Part Number 1: 493-12905-1-ND; ComponentLink1Description: Datasheet; ComponentLink1URL: http://nichicon-us.com/english/products/pdfs/e-uvy.pdf; ComponentLink2Description: Digi-Key Listing; ComponentLink2URL: https://www.digikey.com/product-detail/en/nichicon/UVY1E222MHD1TO/493-12905-1-ND/4328522; Tolerance: 20%; Voltage: 25V; Price: 1.05; Device Package: Radial, Can, 12.5mm
footprint CAP AL TH D12.5 L5 H22
pins: 1, 2

## UVY1E223MRD
designator C?, comment 22000uF  (value not drawn)
CAP ALUM 22000UF 20% 25V RADIAL; Part Number: UVY1E223MRD; Manufacturer: Nichicon; TemperatureRange: -55C ~ 105C; Type: Polar; Ripple Current: 3.25A; Value: 22000uF; PartId: 27550; Supplier 1: Digi-Key; Supplier Part Number 1: 493-12469-ND; ComponentLink1Description: Datasheet; ComponentLink1URL: http://nichicon-us.com/english/products/pdfs/e-uvy.pdf; ComponentLink2Description: Digi-Key Listing; ComponentLink2URL: https://www.digikey.com/product-detail/en/nichicon/UVY1E223MRD/493-12469-ND/2539648; Tolerance: 20%; Voltage: 25V; Price: 4.35; Device Package: Radial, Can, 25mm
footprint CAP AL TH D25 L12.5 H52
pins: 1, 2

## UVY1E471MPD1TD
designator C?, comment 470uF  (value not drawn)
CAP ALUM 470UF 20% 25V RADIAL; Part Number: UVY1E471MPD1TD; Manufacturer: Nichicon; TemperatureRange: -55C ~ 105C; Type: Polar; Ripple Current: 380mA; Value: 470uF; PartId: 24523; Supplier 1: Digi-Key; Supplier Part Number 1: 493-12908-3-ND; ComponentLink1Description: Datasheet; ComponentLink1URL: http://nichicon-us.com/english/products/pdfs/e-uvy.pdf; ComponentLink2Description: Digi-Key Listing; ComponentLink2URL: https://www.digikey.com/product-detail/en/nichicon/UVY1E471MPD1TD/493-12908-3-ND/4329107; Tolerance: 20%; Voltage: 25V; Price: 0.1402; Device Package: Radial, Can, 10mm
footprint CAP AL TH D10 L5 H14.5
pins: 1, 2

## UVY1E472MHD
designator C?, comment 4700uF  (value not drawn)
CAP ALUM 4700UF 20% 25V RADIAL; Part Number: UVY1E472MHD; Manufacturer: Nichicon; TemperatureRange: -55C ~ 105C; Type: Polar; Ripple Current: 1.57A; Value: 4700uF; PartId: 26628; Supplier 1: Digi-Key; Supplier Part Number 1: UVY1E472MHD-ND; ComponentLink1Description: Datasheet; ComponentLink1URL: http://nichicon-us.com/english/products/pdfs/e-uvy.pdf; ComponentLink2Description: Digi-Key Listing; ComponentLink2URL: https://www.digikey.com/product-detail/en/nichicon/UVY1E472MHD/UVY1E472MHD-ND/2428009; Tolerance: 20%; Voltage: 25V; Price: 1.44; Device Package: Radial, Can, 16mm
footprint CAP AL TH D16 L7.5 H26.5
pins: 1, 2

## UVY1E472MHD1TN
designator C?, comment 4700uF  (value not drawn)
CAP ALUM 4700UF 20% 25V RADIAL; Part Number: UVY1E472MHD1TN; Manufacturer: Nichicon; TemperatureRange: -55C ~ 105C; Type: Polar; Ripple Current: 1.57A; Value: 4700uF; PartId: 26802; Supplier 1: Digi-Key; Supplier Part Number 1: 493-12909-3-ND; ComponentLink1Description: Datasheet; ComponentLink1URL: http://nichicon-us.com/english/products/pdfs/e-uvy.pdf; ComponentLink2Description: Digi-Key Listing; ComponentLink2URL: https://www.digikey.com/product-detail/en/nichicon/UVY1E472MHD1TN/493-12909-3-ND/4329108; Tolerance: 20%; Voltage: 25V; Price: 0.7604; Device Package: Radial, Can, 16mm
footprint CAP AL TH D16 L7.5 H27
pins: 1, 2

## UVY1H102MHD
designator C?, comment 1000uF  (value not drawn)
CAP ALUM 1000UF 20% 50V RADIAL; Part Number: UVY1H102MHD; Manufacturer: Nichicon; TemperatureRange: -55C ~ 105C; Type: Polar; Ripple Current: 950mA; Value: 1000uF; PartId: 23539; Supplier 1: Digi-Key; Supplier Part Number 1: UVY1H102MHD-ND; ComponentLink1Description: Datasheet; ComponentLink1URL: http://nichicon-us.com/english/products/pdfs/e-uvy.pdf; ComponentLink2Description: Digi-Key Listing; ComponentLink2URL: https://www.digikey.com/product-detail/en/nichicon/UVY1H102MHD/UVY1H102MHD-ND/2428007; Tolerance: 20%; Voltage: 50V; Price: 0.77; Device Package: Radial, Can, 12.5mm
footprint CAP AL TH D12.5 L5 H25
pins: 1, 2

## UVY1H102MHD1TO
designator C?, comment 1000uF  (value not drawn)
CAP ALUM 1000UF 20% 50V RADIAL; Part Number: UVY1H102MHD1TO; Manufacturer: Nichicon; TemperatureRange: -55C ~ 105C; Type: Polar; Ripple Current: 950mA; Value: 1000uF; PartId: 23792; Supplier 1: Digi-Key; Supplier Part Number 1: 493-12914-3-ND; ComponentLink1Description: Datasheet; ComponentLink1URL: http://nichicon-us.com/english/products/pdfs/e-uvy.pdf; ComponentLink2Description: Digi-Key Listing; ComponentLink2URL: https://www.digikey.com/product-detail/en/nichicon/UVY1H102MHD1TO/493-12914-3-ND/4329113; Tolerance: 20%; Voltage: 50V; Price: 0.3261; Device Package: Radial, Can, 12.5mm
footprint CAP AL TH D12.5 L5 H27
pins: 1, 2

## UVY1H221MPD1TD
designator C?, comment 220uF  (value not drawn)
CAP ALUM 220UF 20% 50V RADIAL; Part Number: UVY1H221MPD1TD; Manufacturer: Nichicon; TemperatureRange: -55C ~ 105C; Type: Polar; Ripple Current: 300mA; Value: 220uF; PartId: 24915; Supplier 1: Digi-Key; Supplier Part Number 1: 493-12916-1-ND; ComponentLink1Description: Datasheet; ComponentLink1URL: http://nichicon-us.com/english/products/pdfs/e-uvy.pdf; ComponentLink2Description: Digi-Key Listing; ComponentLink2URL: https://www.digikey.com/product-detail/en/nichicon/UVY1H221MPD1TD/493-12916-1-ND/4328533; Tolerance: 20%; Voltage: 50V; Price: 0.49; Device Package: Radial, Can, 10mm
footprint CAP AL TH D10 L5 H14.5
pins: 1, 2

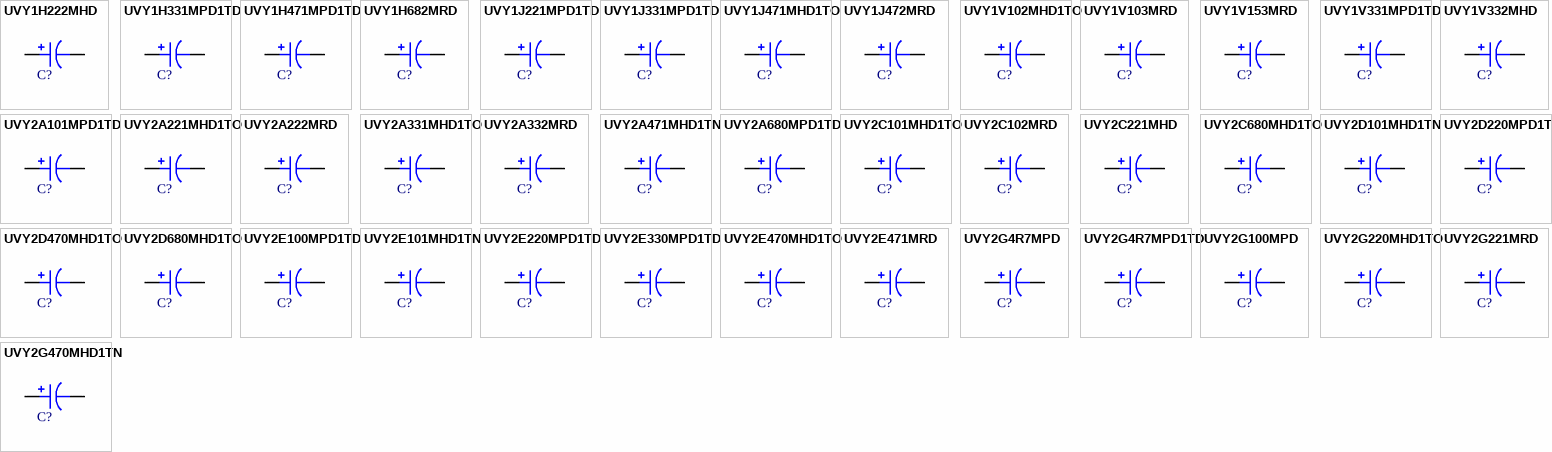
[diagram p110: symbols UVY1H222MHD to UVY2G470MHD1TN]

## UVY1H222MHD
designator C?, comment 2200uF  (value not drawn)
CAP ALUM 2200UF 20% 50V RADIAL; Part Number: UVY1H222MHD; Manufacturer: Nichicon; TemperatureRange: -55C ~ 105C; Type: Polar; Ripple Current: 1.41A; Value: 2200uF; PartId: 27141; Supplier 1: Digi-Key; Supplier Part Number 1: 493-12472-ND; ComponentLink1Description: Datasheet; ComponentLink1URL: http://nichicon-us.com/english/products/pdfs/e-uvy.pdf; ComponentLink2Description: Digi-Key Listing; ComponentLink2URL: https://www.digikey.com/product-detail/en/nichicon/UVY1H222MHD/493-12472-ND/2539659; Tolerance: 20%; Voltage: 50V; Price: 1.81; Device Package: Radial, Can, 16mm
footprint CAP AL TH D16 L7.5 H33.5
pins: 1, 2

## UVY1H331MPD1TD
designator C?, comment 330uF  (value not drawn)
CAP ALUM 330UF 20% 50V RADIAL; Part Number: UVY1H331MPD1TD; Manufacturer: Nichicon; TemperatureRange: -55C ~ 105C; Type: Polar; Ripple Current: 410mA; Value: 330uF; PartId: 25030; Supplier 1: Digi-Key; Supplier Part Number 1: 493-12919-3-ND; ComponentLink1Description: Datasheet; ComponentLink1URL: http://nichicon-us.com/english/products/pdfs/e-uvy.pdf; ComponentLink2Description: Digi-Key Listing; ComponentLink2URL: https://www.digikey.com/product-detail/en/nichicon/UVY1H331MPD1TD/493-12919-3-ND/4329118; Tolerance: 20%; Voltage: 50V; Price: 0.1752; Device Package: Radial, Can, 10mm
footprint CAP AL TH D10 L5 H17.5
pins: 1, 2

## UVY1H471MPD1TD
designator C?, comment 470uF  (value not drawn)
CAP ALUM 470UF 20% 50V RADIAL; Part Number: UVY1H471MPD1TD; Manufacturer: Nichicon; TemperatureRange: -55C ~ 105C; Type: Polar; Ripple Current: 540mA; Value: 470uF; PartId: 25797; Supplier 1: Digi-Key; Supplier Part Number 1: 493-12922-3-ND; ComponentLink1Description: Datasheet; ComponentLink1URL: http://nichicon-us.com/english/products/pdfs/e-uvy.pdf; ComponentLink2Description: Digi-Key Listing; ComponentLink2URL: https://www.digikey.com/product-detail/en/nichicon/UVY1H471MPD1TD/493-12922-3-ND/4329121; Tolerance: 20%; Voltage: 50V; Price: 0.2747; Device Package: Radial, Can, 10mm
footprint CAP AL TH D10 L5 H22
pins: 1, 2

## UVY1H682MRD
designator C?, comment 6800uF  (value not drawn)
CAP ALUM 6800UF 20% 50V RADIAL; Part Number: UVY1H682MRD; Manufacturer: Nichicon; TemperatureRange: -55C ~ 105C; Type: Polar; Ripple Current: 2.5A; Value: 6800uF; PartId: 27611; Supplier 1: Digi-Key; Supplier Part Number 1: 493-12475-ND; ComponentLink1Description: Datasheet; ComponentLink1URL: http://nichicon-us.com/english/products/pdfs/e-uvy.pdf; ComponentLink2Description: Digi-Key Listing; ComponentLink2URL: https://www.digikey.com/product-detail/en/nichicon/UVY1H682MRD/493-12475-ND/2539670; Tolerance: 20%; Voltage: 50V; Price: 3.99; Device Package: Radial, Can, 22mm
footprint CAP AL TH D22 L10 H53
pins: 1, 2

## UVY1J221MPD1TD
designator C?, comment 220uF  (value not drawn)
CAP ALUM 220UF 20% 63V RADIAL; Part Number: UVY1J221MPD1TD; Manufacturer: Nichicon; TemperatureRange: -55C ~ 105C; Type: Polar; Ripple Current: 335mA; Value: 220uF; PartId: 25029; Supplier 1: Digi-Key; Supplier Part Number 1: 493-12931-3-ND; ComponentLink1Description: Datasheet; ComponentLink1URL: http://nichicon-us.com/english/products/pdfs/e-uvy.pdf; ComponentLink2Description: Digi-Key Listing; ComponentLink2URL: https://www.digikey.com/product-detail/en/nichicon/UVY1J221MPD1TD/493-12931-3-ND/4329130; Tolerance: 20%; Voltage: 63V; Price: 0.1748; Device Package: Radial, Can, 10mm
footprint CAP AL TH D10 L5 H17.5
pins: 1, 2

## UVY1J331MPD1TD
designator C?, comment 330uF  (value not drawn)
CAP ALUM 330UF 20% 63V RADIAL; Part Number: UVY1J331MPD1TD; Manufacturer: Nichicon; TemperatureRange: -55C ~ 105C; Type: Polar; Ripple Current: 510mA; Value: 330uF; PartId: 25762; Supplier 1: Digi-Key; Supplier Part Number 1: 493-12933-3-ND; ComponentLink1Description: Datasheet; ComponentLink1URL: http://nichicon-us.com/english/products/pdfs/e-uvy.pdf; ComponentLink2Description: Digi-Key Listing; ComponentLink2URL: https://www.digikey.com/product-detail/en/nichicon/UVY1J331MPD1TD/493-12933-3-ND/4329132; Tolerance: 20%; Voltage: 63V; Price: 0.215; Device Package: Radial, Can, 10mm
footprint CAP AL TH D10 L5 H22
pins: 1, 2

## UVY1J471MHD1TO
designator C?, comment 470uF  (value not drawn)
CAP ALUM 470UF 20% 63V RADIAL; Part Number: UVY1J471MHD1TO; Manufacturer: Nichicon; TemperatureRange: -55C ~ 105C; Type: Polar; Ripple Current: 640mA; Value: 470uF; PartId: 23357; Supplier 1: Digi-Key; Supplier Part Number 1: 493-12935-1-ND; ComponentLink1Description: Datasheet; ComponentLink1URL: http://nichicon-us.com/english/products/pdfs/e-uvy.pdf; ComponentLink2Description: Digi-Key Listing; ComponentLink2URL: https://www.digikey.com/product-detail/en/nichicon/UVY1J471MHD1TO/493-12935-1-ND/4328552; Tolerance: 20%; Voltage: 63V; Price: 0.85; Device Package: Radial, Can, 12.5mm
footprint CAP AL TH D12.5 L5 H22
pins: 1, 2

## UVY1J472MRD
designator C?, comment 4700uF  (value not drawn)
CAP ALUM 4700UF 20% 63V RADIAL; Part Number: UVY1J472MRD; Manufacturer: Nichicon; TemperatureRange: -55C ~ 105C; Type: Polar; Ripple Current: 2.45A; Value: 4700uF; PartId: 27623; Supplier 1: Digi-Key; Supplier Part Number 1: 493-12478-ND; ComponentLink1Description: Datasheet; ComponentLink1URL: http://nichicon-us.com/english/products/pdfs/e-uvy.pdf; ComponentLink2Description: Digi-Key Listing; ComponentLink2URL: https://www.digikey.com/product-detail/en/nichicon/UVY1J472MRD/493-12478-ND/2539684; Tolerance: 20%; Voltage: 63V; Price: 3.9; Device Package: Radial, Can, 22mm
footprint CAP AL TH D22 L10 H53
pins: 1, 2

## UVY1V102MHD1TO
designator C?, comment 1000uF  (value not drawn)
CAP ALUM 1000UF 20% 35V RADIAL; Part Number: UVY1V102MHD1TO; Manufacturer: Nichicon; TemperatureRange: -55C ~ 105C; Type: Polar; Ripple Current: 810mA; Value: 1000uF; PartId: 23148; Supplier 1: Digi-Key; Supplier Part Number 1: 493-12938-3-ND; ComponentLink1Description: Datasheet; ComponentLink1URL: http://nichicon-us.com/english/products/pdfs/e-uvy.pdf; ComponentLink2Description: Digi-Key Listing; ComponentLink2URL: https://www.digikey.com/product-detail/en/nichicon/UVY1V102MHD1TO/493-12938-3-ND/4329137; Tolerance: 20%; Voltage: 35V; Price: 0.2882; Device Package: Radial, Can, 12.5mm
footprint CAP AL TH D12.5 L5 H22
pins: 1, 2

## UVY1V103MRD
designator C?, comment 10000uF  (value not drawn)
CAP ALUM 10000UF 20% 35V RADIAL; Part Number: UVY1V103MRD; Manufacturer: Nichicon; TemperatureRange: -55C ~ 105C; Type: Polar; Ripple Current: 2.65A; Value: 10000uF; PartId: 27622; Supplier 1: Digi-Key; Supplier Part Number 1: 493-12480-ND; ComponentLink1Description: Datasheet; ComponentLink1URL: http://nichicon-us.com/english/products/pdfs/e-uvy.pdf; ComponentLink2Description: Digi-Key Listing; ComponentLink2URL: https://www.digikey.com/product-detail/en/nichicon/UVY1V103MRD/493-12480-ND/2539689; Tolerance: 20%; Voltage: 35V; Price: 3.8; Device Package: Radial, Can, 22mm
footprint CAP AL TH D22 L10 H53
pins: 1, 2

## UVY1V153MRD
designator C?, comment 15000uF  (value not drawn)
CAP ALUM 15000UF 20% 35V RADIAL; Part Number: UVY1V153MRD; Manufacturer: Nichicon; TemperatureRange: -55C ~ 105C; Type: Polar; Ripple Current: 3.1A; Value: 15000uF; PartId: 27514; Supplier 1: Digi-Key; Supplier Part Number 1: 493-12481-ND; ComponentLink1Description: Datasheet; ComponentLink1URL: http://nichicon-us.com/english/products/pdfs/e-uvy.pdf; ComponentLink2Description: Digi-Key Listing; ComponentLink2URL: https://www.digikey.com/product-detail/en/nichicon/UVY1V153MRD/493-12481-ND/2539690; Tolerance: 20%; Voltage: 35V; Price: 4.25; Device Package: Radial, Can, 25mm
footprint CAP AL TH D25 L12.5 H52
pins: 1, 2

## UVY1V331MPD1TD
designator C?, comment 330uF  (value not drawn)
CAP ALUM 330UF 20% 35V RADIAL; Part Number: UVY1V331MPD1TD; Manufacturer: Nichicon; TemperatureRange: -55C ~ 105C; Type: Polar; Ripple Current: 350mA; Value: 330uF; PartId: 24535; Supplier 1: Digi-Key; Supplier Part Number 1: 493-12941-3-ND; ComponentLink1Description: Datasheet; ComponentLink1URL: http://nichicon-us.com/english/products/pdfs/e-uvy.pdf; ComponentLink2Description: Digi-Key Listing; ComponentLink2URL: https://www.digikey.com/product-detail/en/nichicon/UVY1V331MPD1TD/493-12941-3-ND/4329140; Tolerance: 20%; Voltage: 35V; Price: 0.1452; Device Package: Radial, Can, 10mm
footprint CAP AL TH D10 L5 H14.5
pins: 1, 2

## UVY1V332MHD
designator C?, comment 3300uF  (value not drawn)
CAP ALUM 3300UF 20% 35V RADIAL; Part Number: UVY1V332MHD; Manufacturer: Nichicon; TemperatureRange: -55C ~ 105C; Type: Polar; Ripple Current: 1.5A; Value: 3300uF; PartId: 27097; Supplier 1: Digi-Key; Supplier Part Number 1: 493-12482-ND; ComponentLink1Description: Datasheet; ComponentLink1URL: http://nichicon-us.com/english/products/pdfs/e-uvy.pdf; ComponentLink2Description: Digi-Key Listing; ComponentLink2URL: https://www.digikey.com/product-detail/en/nichicon/UVY1V332MHD/493-12482-ND/2539693; Tolerance: 20%; Voltage: 35V; Price: 1.72; Device Package: Radial, Can, 16mm
footprint CAP AL TH D16 L7.5 H33.5
pins: 1, 2

## UVY2A101MPD1TD
designator C?, comment 100uF  (value not drawn)
CAP ALUM 100UF 20% 100V RADIAL; Part Number: UVY2A101MPD1TD; Manufacturer: Nichicon; TemperatureRange: -55C ~ 105C; Type: Polar; Ripple Current: 240mA; Value: 100uF; PartId: 25067; Supplier 1: Digi-Key; Supplier Part Number 1: 493-12948-3-ND; ComponentLink1Description: Datasheet; ComponentLink1URL: http://nichicon-us.com/english/products/pdfs/e-uvy.pdf; ComponentLink2Description: Digi-Key Listing; ComponentLink2URL: https://www.digikey.com/product-detail/en/nichicon/UVY2A101MPD1TD/493-12948-3-ND/4329147; Tolerance: 20%; Voltage: 100V; Price: 0.2262; Device Package: Radial, Can, 10mm
footprint CAP AL TH D10 L5 H17.5
pins: 1, 2

## UVY2A221MHD1TO
designator C?, comment 220uF  (value not drawn)
CAP ALUM 220UF 20% 100V RADIAL; Part Number: UVY2A221MHD1TO; Manufacturer: Nichicon; TemperatureRange: -55C ~ 105C; Type: Polar; Ripple Current: 390mA; Value: 220uF; PartId: 23172; Supplier 1: Digi-Key; Supplier Part Number 1: 493-12950-3-ND; ComponentLink1Description: Datasheet; ComponentLink1URL: http://nichicon-us.com/english/products/pdfs/e-uvy.pdf; ComponentLink2Description: Digi-Key Listing; ComponentLink2URL: https://www.digikey.com/product-detail/en/nichicon/UVY2A221MHD1TO/493-12950-3-ND/4329149; Tolerance: 20%; Voltage: 100V; Price: 0.3472; Device Package: Radial, Can, 12.5mm
footprint CAP AL TH D12.5 L5 H22
pins: 1, 2

## UVY2A222MRD
designator C?, comment 2200uF  (value not drawn)
CAP ALUM 2200UF 20% 100V RADIAL; Part Number: UVY2A222MRD; Manufacturer: Nichicon; TemperatureRange: -55C ~ 105C; Type: Polar; Ripple Current: 1.75A; Value: 2200uF; PartId: 27678; Supplier 1: Digi-Key; Supplier Part Number 1: 493-12485-ND; ComponentLink1Description: Datasheet; ComponentLink1URL: http://nichicon-us.com/english/products/pdfs/e-uvy.pdf; ComponentLink2Description: Digi-Key Listing; ComponentLink2URL: https://www.digikey.com/product-detail/en/nichicon/UVY2A222MRD/493-12485-ND/2539706; Tolerance: 20%; Voltage: 100V; Price: 4.51; Device Package: Radial, Can, 22mm
footprint CAP AL TH D22 L10 H53
pins: 1, 2

## UVY2A331MHD1TO
designator C?, comment 330uF  (value not drawn)
CAP ALUM 330UF 20% 100V RADIAL; Part Number: UVY2A331MHD1TO; Manufacturer: Nichicon; TemperatureRange: -55C ~ 105C; Type: Polar; Ripple Current: 540mA; Value: 330uF; PartId: 24068; Supplier 1: Digi-Key; Supplier Part Number 1: 493-12953-1-ND; ComponentLink1Description: Datasheet; ComponentLink1URL: http://nichicon-us.com/english/products/pdfs/e-uvy.pdf; ComponentLink2Description: Digi-Key Listing; ComponentLink2URL: https://www.digikey.com/product-detail/en/nichicon/UVY2A331MHD1TO/493-12953-1-ND/4328570; Tolerance: 20%; Voltage: 100V; Price: 1.19; Device Package: Radial, Can, 12.5mm
footprint CAP AL TH D12.5 L5 H27
pins: 1, 2